# Altium footprint library Buzzers.PcbLib: 1 footprints
Each footprint in its own frame and in the unit in brackets; x right, y up, seen from the top. Pads: shape width x height; smd on the part's side, far side on the other; paste and mask are expansions set on the pad; w line width, h text height; cw(c..) or ccw(c..) is an arc to the next point about the centre after c.
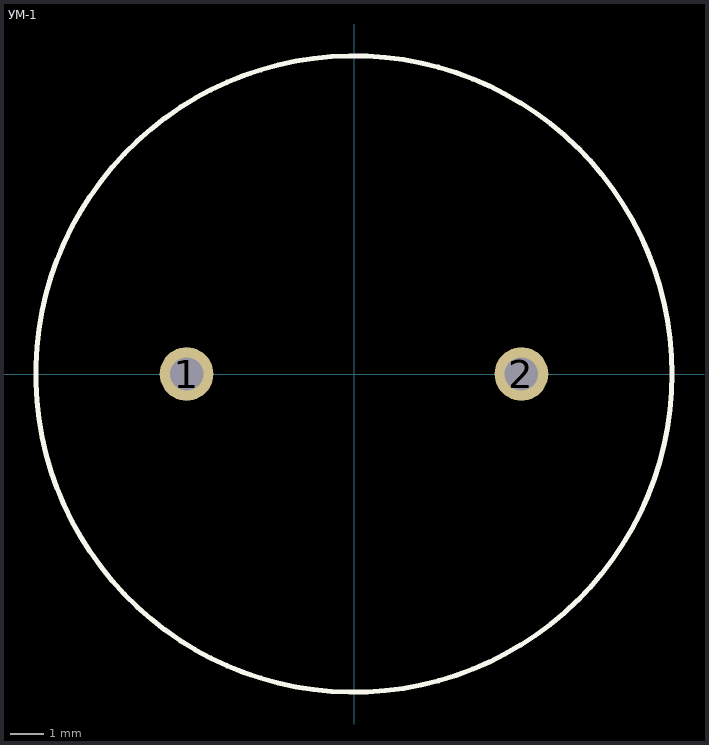
[diagram p0: the footprint, top view; thin cyan lines are the x and y axes]

## УМ-1 [mm]
pads (2):
  round 1.6 hole 1: 1(-5,0) 2(5,0)
Top Overlay:
  circle w0.15: c0,0 r9.5
3D body "УМ-1.stp": height 21.3, standoff -3.7, extent -9,-9 9,9